# Altium schematic symbol library AD8293.SchLib: 2 symbols
Pins are listed as number, name and electrical type; pins without a type are passive.

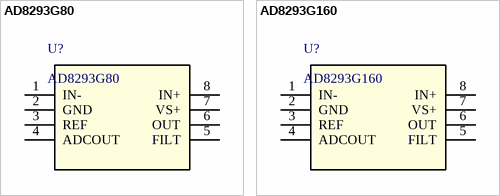
[diagram p0: symbols AD8293G80 to AD8293G160]

## AD8293G80
designator U?
Low Cost, Zero-Drift In-Amp with Filter and Fixed Gain; Mfr_Name: Analog Devices Inc; Manufacturer_Part_Number: AD8293G160ARJZ-R7; Copyright: Copyright (C) 2021 Ultra Librarian. All rights reserved.; RefDes: RefDes; Type: DEV
footprint RJ_8_ADI
pins: 1 IN-, 2 GND, 3 REF, 4 ADCOUT, 5 FILT, 6 OUT, 7 VS+ (power), 8 IN+

## AD8293G160
designator U?
Low Cost, Zero-Drift In-Amp with Filter and Fixed Gain; Mfr_Name: Analog Devices Inc; Manufacturer_Part_Number: AD8293G160ARJZ-R7; Copyright: Copyright (C) 2021 Ultra Librarian. All rights reserved.; RefDes: RefDes; Type: DEV
footprint RJ_8_ADI
pins: 1 IN-, 2 GND, 3 REF, 4 ADCOUT, 5 FILT, 6 OUT, 7 VS+ (power), 8 IN+